# EAGLE library part 1-292227-6 (library te)
1.5mm AMP Mini CT Connectors
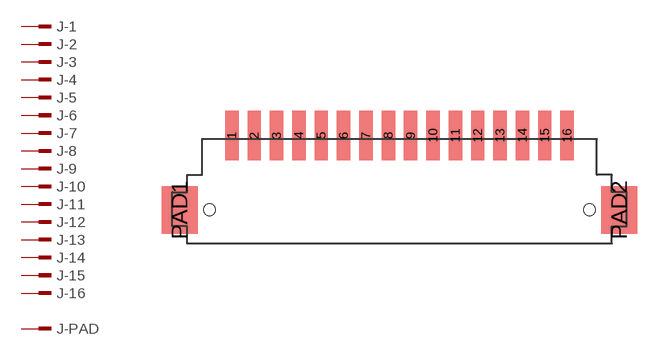
[diagram p2: symbol with the pads of 1-292227-6; footprint 1-292227-6]

Designator prefix J; gates -1=MPIN -2=MPIN -3=MPIN -4=MPIN -5=MPIN -6=MPIN -7=MPIN -8=MPIN -9=MPIN -10=MPIN -11=MPIN -12=MPIN -13=MPIN -14=MPIN -15=MPIN -16=MPIN -PAD=MPIN

## 1-292227-6 (DISTRIBUTOR: Digikey; OC_DIGIKEY: A99782CT-ND; ORDER_CODE: A99782CT-ND)  [1-292227-6]
1  -1:1  pas
2  -2:1  pas
3  -3:1  pas
4  -4:1  pas
5  -5:1  pas
6  -6:1  pas
7  -7:1  pas
8  -8:1  pas
9  -9:1  pas
10  -10:1  pas
11  -11:1  pas
12  -12:1  pas
13  -13:1  pas
14  -14:1  pas
15  -15:1  pas
16  -16:1  pas
PAD1  -PAD:1  pas
PAD2  -PAD:1  pas

## Footprint 1-292227-6 (pad centres in mm)
smd 0.9 x 3.3: 1 -11.25,5; 2 -9.75,5; 3 -8.25,5; 4 -6.75,5; 5 -5.25,5; 6 -3.75,5; 7 -2.25,5; 8 -0.75,5; 9 0.75,5; 10 2.25,5; 11 3.75,5; 12 5.25,5; 13 6.75,5; 14 8.25,5; 15 9.75,5; 16 11.25,5
smd 2.4 x 3.2: PAD1 -14.75,0; PAD2 14.75,0
hole 0.8 at 12.75,0
hole 0.8 at -12.75,0